# Altium schematic symbol library STL.SchLib: 124 symbols (part 1 of 4)
Pins are listed as number, name and electrical type; pins without a type are passive.

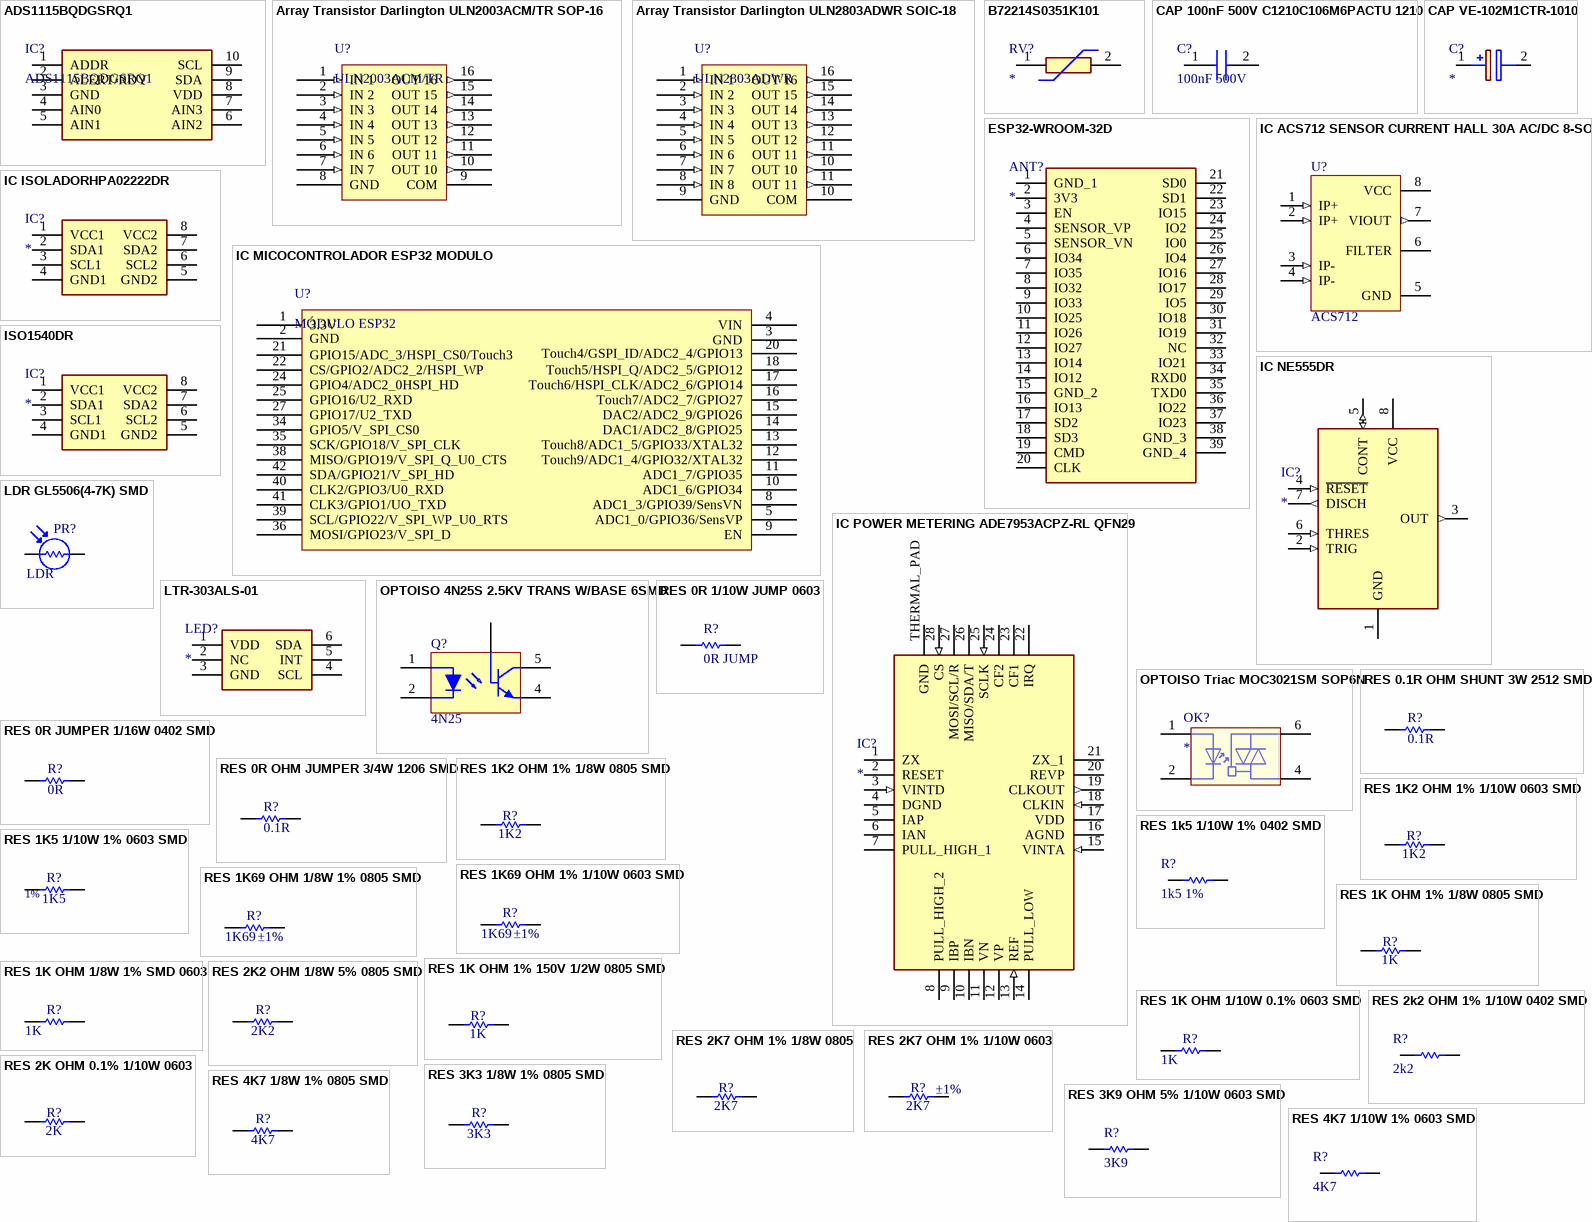
[diagram p0: symbols ADS1115BQDGSRQ1 to RES 4K7 1/10W 1% 0603 SMD]

## ADS1115BQDGSRQ1
designator IC?
TEXAS INSTRUMENTS - ADS1115IDGSR . - Analogue to Digital Converter, 16 bit, 860 SPS, Differential, Single Ended, I2C, Single, 2 V; Description: Automotive 16-Bit 860SPS 4-Ch Delta-Sigma ADC With PGA; Number of Bits: 16; Sampling Rate: 860S/s; Number of A/D Converters: 1; Resolution: 16b; Polarity: Bipolar; Min Supply Voltage: 2V; Max Supply Voltage: 5.5V; Conversion Rate: 0.86KS/s; Number of Inputs: 4; Integral Nonlinearity (INL): 1LSB; Power Dissipation: 900uW; Datasheet Link: http://www.ti.com/lit/gpn/ads1115-q1; Height: 1.1mm; Manufacturer_Name: Texas Instruments; Manufacturer_Part_Number: ADS1115BQDGSRQ1; Mouser Part Number: 595-ADS1115BQDGSRQ1; Mouser Price/Stock: https://www.mouser.co.uk/ProductDetail/Texas-Instruments/ADS1115BQDGSRQ1/?qs=34RfhUjJmKdvyLrkbnfjHA%3D%3D; Arrow Part Number: ADS1115BQDGSRQ1; Arrow Price/Stock: https://www.arrow.com/en/products/ads1115bqdgsrq1/texas-instruments; Supplier 1: LCSC; Manufacturer: Texas Instruments; Manufacturer Part Number: ADS1115IDGSR; RoHS: Yes; Category: Analog to Digital Converters (ADCs); Stock 1: 2090; Pricing 1: 1=6,48990, 10=5,80260, 30=5,62890, 100=5,40670, 500=5,30270, 1000=5,28640, 1=6,27060, 10=5,60650, 30=5,43870, 100=5,22400, 500=5,12350, 1000=5,10770, 1=32,80040, 10=29,32660, 30=28,44890, 100=27,32610, 500=26,80000, 1000=26,71760, 1=31,14230, 10=27,84420, 30=27,01090, 100=25,94470, 500=25,44530, 1000=25,36700, 1=4,18840, 10=3,74480, 30=3,63270, 100=3,48930, 500=3,42220, 1000=3,41160, 1=3,64070, 10=3,25510, 30=3,15770, 100=3,03310, 500=2,97470, 1000=2,96550, 1=39,24500, 10=35,08870, 30=34,03860, 100=32,69510, 500=32,06570, 1000=31,96710, 1=547,53230, 10=489,54570, 30=474,89470, 100=456,15060, 500=447,36860, 1000=445,99340, 1=20,72620, 10=18,53120, 30=17,97660, 100=17,26700, 500=16,93460, 1000=16,88260, 1=379,14150, 10=338,98840, 30=328,84330, 100=315,86380, 500=309,78270, 1000=308,83040, 1=42,40760, 10=37,91640, 30=36,78160, 100=35,32990, 500=34,64970, 1000=34,54320, 1=6,70750, 10=5,99720, 30=5,81770, 100=5,58800, 500=5,48050, 1000=5,46360, 1=5,05640, 10=4,52090, 30=4,38560, 100=4,21250, 500=4,13140, 1000=4,11870 (AUD); Case/Package: VSSOP; Number of Pins: 10; Contact Plating: Gold; Min Operating Temperature: -40°C; Max Operating Temperature: 125°C; Package Quantity: 2500; Packaging: Tape and Reel; Interface: I2C; Number of Converters: 1; Supply Type: Single; Max Supply Voltage (DC): 5.5V; Min Supply Voltage (DC): 2V; Series: -; Radiation Hardening: No; REACH SVHC: No SVHC; Lead Free: Lead Free; RoHS Compliant: Yes; ComponentLink1URL: https://datasheet.ciiva.com/4031/47725463s8438921n7713-4031028.pdf?src-supplier=Arrow+Electronics; ComponentLink1Description: https://datasheet.ciiva.com/4031/47725463s8438921n7713-4031028.pdf?src-supplier=Arrow+Electronics; ComponentLink2URL: https://datasheet.ciiva.com/1304/ads1113-1304266.pdf?src-supplier=Digi-Key; ComponentLink2Description: https://datasheet.ciiva.com/1304/ads1113-1304266.pdf?src-supplier=Digi-Key; ComponentLink3URL: https://datasheet.ciiva.com/25993/sbas444b-25993205.pdf?src-supplier=Avnet+Europe; ComponentLink3Description: https://datasheet.ciiva.com/25993/sbas444b-25993205.pdf?src-supplier=Avnet+Europe; Supplier Part Number 1: C37593
footprint SOP50P490X110-10N
pins: 1 ADDR, 2 ALERT/RDY, 3 GND, 4 AIN0, 5 AIN1, 6 AIN2, 7 AIN3, 8 VDD, 9 SDA, 10 SCL

## Array Transistor Darlington ULN2003ACM/TR SOP-16
designator U?, comment ULN2003ACM/TR
IC PWR RELAY 7NPN 1:1 16SO; Manufacturer: Diodes; Manufacturer Part Number: ULN2003AS16-13; Max Collector Current: 500mA; Collector Emitter Voltage (VCEO): 1.6V; Collector Emitter Breakdown Voltage: 50V; Continuous Collector Current: 350mA; Output Type: TTL; Supplier 1: LCSC; RoHS: Yes; Category: BJTs; Stock 1: 832; Pricing 1: 1=0,27550, 10=0,20470, 30=0,19160, 100=0,17860, 500=0,17270, 1000=0,17000, 1=0,26550, 10=0,19730, 30=0,18460, 100=0,17220, 500=0,16650, 1000=0,16380, 1=1,37700, 10=1,02310, 30=0,95770, 100=0,89290, 500=0,86350, 1000=0,84970, 1=1,32730, 10=0,98620, 30=0,92320, 100=0,86070, 500=0,83240, 1000=0,81910, 1=0,17800, 10=0,13230, 30=0,12380, 100=0,11540, 500=0,11160, 1000=0,10990, 1=0,15260, 10=0,11340, 30=0,10620, 100=0,09900, 500=0,09570, 1000=0,09420, 1=1,63540, 10=1,21510, 30=1,13740, 100=1,06050, 500=1,02560, 1000=1,00920, 1=23,07380, 10=17,14360, 30=16,04750, 100=14,96230, 500=14,46910, 1000=14,23890, 1=0,87280, 10=0,64850, 30=0,60700, 100=0,56600, 500=0,54730, 1000=0,53860, 1=16,00090, 10=11,88860, 30=11,12840, 100=10,37590, 500=10,03380, 1000=9,87420, 1=1,81880, 10=1,35130, 30=1,26490, 100=1,17940, 500=1,14050, 1000=1,12240, 1=0,28330, 10=0,21050, 30=0,19700, 100=0,18370, 500=0,17770, 1000=0,17480, 1=0,21050, 10=0,15640, 30=0,14640, 100=0,13650, 500=0,13200, 1000=0,12990 (AUD); Mount: Surface Mount; Case/Package: SO; Number of Pins: 16; Weight: 0.007079oz; Min Operating Temperature: -40°C; Max Operating Temperature: 105°C; Packaging: Tape and Reel; Package Quantity: 2500; Lead Free: Lead Free; ComponentLink1URL: http://www.mouser.com/ds/2/115/ULN200xA-345854.pdf?src-supplier=Mouser; ComponentLink1Description: http://www.mouser.com/ds/2/115/ULN200xA-345854.pdf?src-supplier=Mouser; ComponentLink2URL: http://diodes.com/datasheets/ULN200xA.pdf?src-supplier=Avnet; ComponentLink2Description: http://diodes.com/datasheets/ULN200xA.pdf?src-supplier=Avnet; ComponentLink3URL: https://www.diodes.com/assets/Datasheets/ULN200xA.pdf?src-supplier=Digi-Key; ComponentLink3Description: https://www.diodes.com/assets/Datasheets/ULN200xA.pdf?src-supplier=Digi-Key; Supplier Part Number 1: C164883
footprint SO-16 (SO-16 SMD COMPONENTS)
pins: 1 IN 1 (in), 2 IN 2 (in), 3 IN 3 (in), 4 IN 4 (in), 5 IN 5 (in), 6 IN 6 (in), 7 IN 7 (in), 8 GND (power), 9 COM (power), 10 OUT 10 (out), 11 OUT 11 (out), 12 OUT 12 (out), 13 OUT 13 (out), 14 OUT 14 (out), 15 OUT 15 (out), 16 OUT 16 (out)

## Array Transistor Darlington ULN2803ADWR SOIC-18
designator U?, comment ULN2803ADWR
TEXAS INSTRUMENTS - ULN2803ADWR - Bipolar Transistor Array, NPN, 50 V, 500 mA, SOIC - Bipolar Transistor Array, NPN, 50 V, 500 mA, SOIC; Collector Emitter Voltage (VCEO): 50V; Max Collector Current: 500mA; Number of Elements: 8; Collector Emitter Saturation Voltage: 1.1V; ComponentLink1URL: http://www.mouser.com/ds/2/115/ULN200xA-345854.pdf?src-supplier=Mouser; ComponentLink1Description: http://www.mouser.com/ds/2/115/ULN200xA-345854.pdf?src-supplier=Mouser; Supplier 1: LCSC; Manufacturer: Texas Instruments; Manufacturer Part Number: ULN2803ADWR; RoHS: Yes; Category: Integrated Circuits (ICs); Stock 1: 49110; Pricing 1: 1=1,34980, 10=1,10210, 30=1,03840, 100=0,95810, 500=0,92030, 1000=0,91330, 1=1,30100, 10=1,06220, 30=1,00080, 100=0,92350, 500=0,88700, 1000=0,88020, 1=6,74760, 10=5,50930, 30=5,19070, 100=4,78970, 500=4,60060, 1000=4,56530, 1=6,50430, 10=5,31070, 30=5,00360, 100=4,61700, 500=4,43480, 1000=4,40070, 1=0,87230, 10=0,71220, 30=0,67110, 100=0,61920, 500=0,59480, 1000=0,59020, 1=0,74800, 10=0,61070, 30=0,57540, 100=0,53090, 500=0,51000, 1000=0,50610, 1=8,01410, 10=6,54330, 30=6,16500, 100=5,68870, 500=5,46420, 1000=5,42220, 1=113,06690, 10=92,31690, 30=86,97870, 100=80,25940, 500=77,09160, 1000=76,49960, 1=4,27710, 10=3,49220, 30=3,29020, 100=3,03610, 500=2,91620, 1000=2,89380, 1=78,40820, 10=64,01880, 30=60,31700, 100=55,65730, 500=53,46050, 1000=53,05000, 1=8,91250, 10=7,27690, 30=6,85610, 100=6,32640, 500=6,07670, 1000=6,03010, 1=1,38830, 10=1,13350, 30=1,06800, 100=0,98550, 500=0,94660, 1000=0,93930, 1=1,03150, 10=0,84220, 30=0,79350, 100=0,73220, 500=0,70330, 1000=0,69790 (AUD); Mount: Surface Mount; Case/Package: SOIC; Number of Pins: 18; Contact Plating: Gold; Min Operating Temperature: -65°C; Max Operating Temperature: 150°C; Packaging: Tape and Reel; Package Quantity: 1; Polarity: NPN; Collector Emitter Breakdown Voltage: 50V; Number of Drivers: 8; Voltage Rating (DC): 50V; Current Rating: 500mA; Length: 11.62mm; Width: 7.52mm; Height: 2.35mm; Radiation Hardening: No; Lead Free: Lead Free; RoHS Compliant: Yes; REACH SVHC: No SVHC; ComponentLink2URL: https://datasheet.ciiva.com/1193/1696822-1193522.pdf?src-supplier=Element14; ComponentLink2Description: https://datasheet.ciiva.com/1193/1696822-1193522.pdf?src-supplier=Element14; ComponentLink3URL: https://datasheet.ciiva.com/15140/getdatasheetpartid-134747-15140033.pdf?src-supplier=Verical; ComponentLink3Description: https://datasheet.ciiva.com/15140/getdatasheetpartid-134747-15140033.pdf?src-supplier=Verical; ComponentLink4URL: https://datasheet.ciiva.com/27054/1927351-27054884.pdf?src-supplier=Jameco; ComponentLink4Description: https://datasheet.ciiva.com/27054/1927351-27054884.pdf?src-supplier=Jameco; ComponentLink5URL: https://datasheet.ciiva.com/1700/uln2803a-1700969.pdf?src-supplier=Digi-Key; ComponentLink5Description: https://datasheet.ciiva.com/1700/uln2803a-1700969.pdf?src-supplier=Digi-Key; ComponentLink6URL: https://datasheet.ciiva.com/1700/uln2803a-1700970.pdf?src-supplier=Digi-Key; ComponentLink6Description: https://datasheet.ciiva.com/1700/uln2803a-1700970.pdf?src-supplier=Digi-Key; ComponentLink7URL: https://datasheet.ciiva.com/14424/uln2803a-14424071.pdf?src-supplier=Avnet; ComponentLink7Description: https://datasheet.ciiva.com/14424/uln2803a-14424071.pdf?src-supplier=Avnet; ComponentLink8URL: https://datasheet.ciiva.com/14424/uln2803a-14424072.pdf?src-supplier=Avnet; ComponentLink8Description: https://datasheet.ciiva.com/14424/uln2803a-14424072.pdf?src-supplier=Avnet; ComponentLink9URL: https://datasheet.ciiva.com/22695/1887697-22695371.pdf?src-supplier=Element14; ComponentLink9Description: https://datasheet.ciiva.com/22695/1887697-22695371.pdf?src-supplier=Element14; ComponentLink10URL: https://datasheet.ciiva.com/1258/1696822-1258689.pdf?src-supplier=Newark; ComponentLink10Description: https://datasheet.ciiva.com/1258/1696822-1258689.pdf?src-supplier=Newark; ComponentLink11URL: https://datasheet.ciiva.com/22747/1887697-22747447.pdf?src-supplier=Element14; ComponentLink11Description: https://datasheet.ciiva.com/22747/1887697-22747447.pdf?src-supplier=Element14; ComponentLink12URL: https://datasheet.ciiva.com/46384/1887697-46384520.pdf?src-supplier=Element14; ComponentLink12Description: https://datasheet.ciiva.com/46384/1887697-46384520.pdf?src-supplier=Element14; Supplier Part Number 1: C9683
footprint SOIC-18 (SO-16 SMD COMPONENTS)
pins: 1 IN 1 (in), 2 IN 2 (in), 3 IN 3 (in), 4 IN 4 (in), 5 IN 5 (in), 6 IN 6 (in), 7 IN 7 (in), 8 IN 8 (in), 9 GND (power), 10 OUT 10 (out), 10 COM (power), 11 OUT 11 (out), 11 OUT 11 (out), 12 OUT 12 (out), 13 OUT 13 (out), 14 OUT 14 (out), 15 OUT 15 (out), 16 OUT 16 (out)

## B72214S0351K101
designator RV?
Varistor; Manufacturer_Name: TDK; Manufacturer_Part_Number: B72214S0351K101; Datasheet Link: https://datasheet.lcsc.com/szlcsc/TDK-B72214S0351K101_C83535.pdf; Height: 18.5mm; Arrow Part Number: B72214S0351K101; Arrow Price/Stock: https://www.arrow.com/en/products/b72214s0351k101/epcos-tdk
footprint B72214S0351K101
pins: 1, 2

## CAP 100nF 500V C1210C106M6PACTU 1210
designator C?, comment 100nF 500V
CAP CER 0.1UF 500V X7R 1210; Manufacturer_Name: Kemet; Manufacturer_Part_Number: C1210C106M6PACTU; Manufacturer Part Number: C1210C104KCRACTU; Dielectric Material: Ceramic; Voltage Rating (DC): 1kV; Tolerance: 10%; Datasheet Link: https://api.kemet.com/component-edge/download/datasheet/C1210C106M6PACTU.pdf; Height: 2.1mm; Mouser Part Number: 80-C1210C106M6P; Mouser Price/Stock: https://www.mouser.co.uk/ProductDetail/KEMET/C1210C106M6PACTU?qs=K%2Fj%2Fqf%252B0fqKxjJfAWxNdjg%3D%3D; Arrow Part Number: C1210C106M6PACTU; Arrow Price/Stock: https://www.arrow.com/en/products/c1210c106m6pactu/kemet-corporation; Supplier 1: LCSC; Manufacturer: KEMET; RoHS: Yes; Category: Ceramic Capacitors; Stock 1: 12082; Pricing 1: 1=0,22980, 10=0,17550, 30=0,16550, 100=0,15550, 500=0,15110, 1000=0,14890, 1=0,22120, 10=0,16900, 30=0,15930, 100=0,14970, 500=0,14540, 1000=0,14330, 1=1,15440, 10=0,88170, 30=0,83110, 100=0,78120, 500=0,75890, 1000=0,74770, 1=1,10970, 10=0,84760, 30=0,79900, 100=0,75100, 500=0,72950, 1000=0,71880, 1=0,14920, 10=0,11400, 30=0,10740, 100=0,10100, 500=0,09810, 1000=0,09670, 1=0,12760, 10=0,09740, 30=0,09180, 100=0,08630, 500=0,08390, 1000=0,08260, 1=1,36580, 10=1,04320, 30=0,98340, 100=0,92430, 500=0,89790, 1000=0,88460, 1=19,30340, 10=14,74390, 30=13,89800, 100=13,06300, 500=12,68950, 1000=12,50270, 1=0,72810, 10=0,55610, 30=0,52420, 100=0,49270, 500=0,47860, 1000=0,47160, 1=13,29180, 10=10,15230, 30=9,56980, 100=8,99480, 500=8,73760, 1000=8,60900, 1=1,52590, 10=1,16550, 30=1,09860, 100=1,03260, 500=1,00310, 1000=0,98830, 1=0,23690, 10=0,18090, 30=0,17050, 100=0,16030, 500=0,15570, 1000=0,15340, 1=0,17570, 10=0,13420, 30=0,12650, 100=0,11890, 500=0,11550, 1000=0,11380 (AUD); Mount: Surface Mount; Case/Package: 1210; Case Code (Imperial): 1210; Case Code (Metric): 3225; Contact Plating: Tin,Matte; Min Operating Temperature: -55°C; Max Operating Temperature: 125°C; Package Quantity: 1; Voltage Rating: 500V; Packaging: Tape and Reel; Capacitance: 100nF; Dielectric: X7R; Termination: SMD/SMT; Series: C; Length: 3.2mm; Width: 2.5mm; Thickness: 0.091inch; Depth: 2.5mm; REACH SVHC: No SVHC; RoHS Compliant: Yes; ComponentLink1URL: https://datasheet.ciiva.com/5409/kem-c1010-x7r-hv-smd-5409158.pdf?src-supplier=Mouser; ComponentLink1Description: https://datasheet.ciiva.com/5409/kem-c1010-x7r-hv-smd-5409158.pdf?src-supplier=Mouser; Supplier Part Number 1: C141218
footprint CAPC3225-1210N
pins: 1, 2

## CAP VE-102M1CTR-1010
designator C?
Capacitor Polarised; Manufacturer_Name: Lelon; Manufacturer_Part_Number: VE-102M1CTR-1010; Datasheet Link: https://datasheet.lcsc.com/szlcsc/1811051743_Lelon-VE-102M1CTR-1010_C249474.pdf; Height: 10.5mm
footprint CAPAE1030X1050N
pins: 1 +, 2 -

## ESP32-WROOM-32D
designator ANT?
Antenna; Manufacturer_Name: Espressif Systems; Manufacturer_Part_Number: ESP32-WROOM-32D; Datasheet Link: https://www.mouser.com/datasheet/2/891/esp32-wroom-32d_esp32-wroom-32u_datasheet_en-1365844.pdf; Height: 3.1mm; Mouser Part Number: N/A; Mouser Price/Stock: https://www.mouser.co.uk/ProductDetail/Espressif-Systems/ESP32-WROOM-32D/?qs=MLItCLRbWszx2KabkKPu5A%3D%3D
footprint ESP32WROOM32D
pins: 1 GND_1, 2 3V3, 3 EN, 4 SENSOR_VP, 5 SENSOR_VN, 6 IO34, 7 IO35, 8 IO32, 9 IO33, 10 IO25, 11 IO26, 12 IO27, 13 IO14, 14 IO12, 15 GND_2, 16 IO13, 17 SD2, 18 SD3, 19 CMD, 20 CLK, 21 SD0, 22 SD1, 23 IO15, 24 IO2, 25 IO0, 26 IO4, 27 IO16, 28 IO17, 29 IO5, 30 IO18, 31 IO19, 32 NC, 33 IO21, 34 RXD0, 35 TXD0, 36 IO22, 37 IO23, 38 GND_3, 39 GND_4

## IC ACS712 SENSOR CURRENT HALL 30A AC/DC 8-SOIC
designator U?, comment ACS712
SENSOR CURRENT HALL 30A AC/DC; Manufacturer: Allegro MicroSystems, LLC; Manufacturer Part Number: ACS712ELCTR-30A-T; Sensor Type: Hall Effect, Open Loop; Number of Channels: 1; Output: Ratiometric, Voltage; Sensitivity: 66mV/A; Frequency: DC ~ 80kHz; Linearity: ±1.5%; Voltage - Supply: 5V; Response Time: 5µs; Current - Supply (Max): 13mA; Polarization: Bidirectional; Supplier 1: Digi-Key; RoHS: RoHS Compliant; Category: Sensors, Transducers; Stock 1: 10995; Pricing 1: 1=4.82, 10=3.76, 50=2.6962, 100=2.6252, 250=2.41232, 500=2.19946, 1000=2.05755 (USD); Packaging: Cut Tape (CT); For Measuring: AC/DC; Current - Sensing: 30A; Accuracy: ±1.5%; Operating Temperature: -40°C ~ 85°C; Mounting Type: Surface Mount; Package / Case: 8-SOIC (0.154", 3.90mm Width); ComponentLink1URL: http://www.allegromicro.com/en/Products/Part_Numbers/0712/0712.pdf; ComponentLink1Description: http://www.allegromicro.com/en/Products/Part_Numbers/0712/0712.pdf; Supplier Part Number 1: 620-1191-1-ND
footprint SOIC-8
pins: 1 IP+ (in), 2 IP+ (in), 3 IP- (in), 4 IP- (in), 5 GND (power), 6 FILTER, 7 VIOUT (out), 8 VCC (power)

## IC ISOLADORHPA02222DR
designator IC?
Integrated Circuit; Manufacturer_Name: Texas Instruments; Manufacturer_Part_Number: HPA02222DR; Datasheet Link: http://www.ti.com/general/docs/suppproductinfo.tsp?distId=26&gotoUrl=http%3A%2F%2Fwww.ti.com%2Flit%2Fgpn%2Fiso1540; Height: 1.75mm; Mouser Part Number: 595-HPA02222DR; Mouser Price/Stock: http://www.mouser.com/Search/ProductDetail.aspx?qs=CinXaP2cUj2opC1RRUOhNg%3d%3d
footprint SOIC127P600X175-8N
pins: 1 VCC1, 2 SDA1, 3 SCL1, 4 GND1, 5 GND2, 6 SCL2, 7 SDA2, 8 VCC2

## IC MICOCONTROLADOR ESP32 MODULO
designator U?, comment MÓDULO ESP32
footprint ESP32 MOD
pins: 1 3.3V (power), 2 GND (power), 3 GND, 4 VIN, 5 ADC1_0/GPIO36/SensVP, 8 ADC1_3/GPIO39/SensVN, 9 EN, 10 ADC1_6/GPIO34, 11 ADC1_7/GPIO35, 12 Touch9/ADC1_4/GPIO32/XTAL32, 13 Touch8/ADC1_5/GPIO33/XTAL32, 14 DAC1/ADC2_8/GPIO25, 15 DAC2/ADC2_9/GPIO26, 16 Touch7/ADC2_7/GPIO27, 17 Touch6/HSPI_CLK/ADC2_6/GPIO14, 18 Touch5/HSPI_Q/ADC2_5/GPIO12, 20 Touch4/GSPI_ID/ADC2_4/GPIO13, 21 GPIO15/ADC_3/HSPI_CS0/Touch3, 22 CS/GPIO2/ADC2_2/HSPI_WP, 24 GPIO4/ADC2_0HSPI_HD, 25 GPIO16/U2_RXD, 27 GPIO17/U2_TXD, 34 GPIO5/V_SPI_CS0, 35 SCK/GPIO18/V_SPI_CLK, 36 MOSI/GPIO23/V_SPI_D, 38 MISO/GPIO19/V_SPI_Q_U0_CTS, 39 SCL/GPIO22/V_SPI_WP_U0_RTS, 40 CLK2/GPIO3/U0_RXD, 41 CLK3/GPIO1/UO_TXD, 42 SDA/GPIO21/V_SPI_HD

## IC NE555DR
designator IC?
Integrated Circuit; Manufacturer_Name: Texas Instruments; Manufacturer_Part_Number: NE555DR; Datasheet Link: http://www.ti.com/lit/ds/symlink/ne555.pdf; Height: 1.75mm; Mouser Part Number: 595-NE555DR; Mouser Price/Stock: https://www.mouser.com/Search/Refine.aspx?Keyword=595-NE555DR; RS Part Number: 1218414; RS Price/Stock: http://uk.rs-online.com/web/p/products/1218414
footprint SOIC127P600X175-8N
pins: 1 GND (power), 2 TRIG (in), 3 OUT (out), 4 ~{RESET} (in), 5 CONT (io), 6 THRES (in), 7 DISCH (out), 8 VCC (power)

## IC POWER METERING ADE7953ACPZ-RL QFN29
designator IC?
Integrated Circuit; Manufacturer_Name: Analog Devices; Manufacturer_Part_Number: ADE7953ACPZ-RL; Datasheet Link: http://www.mouser.com/ds/2/609/ADE7953-878394.pdf; Height: 0.8mm; Mouser Part Number: 584-ADE7953ACPZ-R; Mouser Price/Stock: https://www.mouser.co.uk/ProductDetail/Analog-Devices/ADE7953ACPZ-RL?qs=BpaRKvA4VqEEtm%2FBpTzUmQ%3D%3D; Arrow Part Number: ADE7953ACPZ-RL; Arrow Price/Stock: https://www.arrow.com/en/products/ade7953acpz-rl/analog-devices
footprint QFN50P500X500X80-29N-D
pins: 1 ZX, 2 RESET, 3 VINTD (in), 4 DGND (power), 5 IAP, 6 IAN, 7 PULL_HIGH_1, 8 PULL_HIGH_2, 9 IBP, 10 IBN, 11 VN, 12 VP, 13 REF (in), 14 PULL_LOW, 15 VINTA (in), 16 AGND (power), 17 VDD (power), 18 CLKIN (in), 19 CLKOUT (out), 20 REVP, 21 ZX_1, 22 IRQ, 23 CF1, 24 CF2, 25 SCLK (in), 26 MISO/SDA/T, 27 MOSI/SCL/R, 28 CS (in), THERMAL_PAD GND (power)

## ISO1540DR
designator IC?
Integrated Circuit; Manufacturer_Name: Texas Instruments; Manufacturer_Part_Number: ISO1540DR; Datasheet Link: http://www.ti.com/lit/ds/symlink/iso1540.pdf; Height: 1.75mm; Mouser Part Number: 595-ISO1540DR; Mouser Price/Stock: https://www.mouser.co.uk/ProductDetail/Texas-Instruments/ISO1540DR?qs=rg6Iqu58vpX77upb7ifqqQ%3D%3D; Arrow Part Number: ISO1540DR; Arrow Price/Stock: https://www.arrow.com/en/products/iso1540dr/texas-instruments
footprint SOIC127P600X175-8N
pins: 1 VCC1, 2 SDA1, 3 SCL1, 4 GND1, 5 GND2, 6 SCL2, 7 SDA2, 8 VCC2

## LDR GL5506(4-7K) SMD
designator PR?, comment LDR
THROUGH HOLE PHOTORESISTORS ROHS; Manufacturer: JCHL(Shenzhen Jing Chuang He Li Tech); Manufacturer Part Number: GL5506(4-7K); Supplier 1: LCSC; Supplier Part Number 1: C404970
footprint LDR 3x0.5
pins: 1, 2

## LTR-303ALS-01
designator LED?
LED; Manufacturer_Name: Lite-On; Manufacturer_Part_Number: LTR-303ALS-01; Datasheet Link: http://optoelectronics.liteon.com/upload/download/DS86-2013-0004/LTR-303ALS-01_DS_V1.pdf; Height: 0mm; Mouser Part Number: 859-LTR-303ALS-01; Mouser Price/Stock: https://www.mouser.co.uk/ProductDetail/Lite-On/LTR-303ALS-01?qs=Ml%2FaxAEbwm%252Bm%252BetMkBDC8g%3D%3D; Arrow Part Number: LTR-303ALS-01; Arrow Price/Stock: https://www.arrow.com/en/products/ltr-303als-01/lite-on-technology
footprint LTR303ALS01
pins: 1 VDD, 2 NC, 3 GND, 4 SCL, 5 INT, 6 SDA

## OPTOISO 4N25S 2.5KV TRANS W/BASE 6SMD
designator Q?, comment 4N25
OPTOISO 4.17KV TRANS W/BASE 6SMD; Manufacturer: ON Semiconductor; Manufacturer Part Number: 4N25SR2M; Max Power Dissipation: 250mW; Supplier 1: Digi-Key; RoHS: No; Category: Optocouplers; Stock 1: 12901; Pricing 1: 1=0,73000, 10=0,57000, 100=0,36570, 500=0,31448 (USD); ComponentLink1URL: http://www.farnell.com/datasheets/2287881.pdf?src-supplier=Farnell; ComponentLink1Description: http://www.farnell.com/datasheets/2287881.pdf?src-supplier=Farnell; ComponentLink2URL: https://produktinfo.conrad.com/datenblaetter/1200000-1299999/001265459-da-01-en-OPTOISOLATOR_TRANS_7__4N25SR2M_SMD_6_ONS.PDF?src-supplier=Conrad; ComponentLink2Description: https://produktinfo.conrad.com/datenblaetter/1200000-1299999/001265459-da-01-en-OPTOISOLATOR_TRANS_7__4N25SR2M_SMD_6_ONS.PDF?src-supplier=Conrad; ComponentLink3URL: http://www.onsemi.com/pub/Collateral/4N37M-D.pdf?src-supplier=Digi-Key; ComponentLink3Description: http://www.onsemi.com/pub/Collateral/4N37M-D.pdf?src-supplier=Digi-Key; ComponentLink4URL: http://www.farnell.com/datasheets/2287881.pdf?src-supplier=Newark; ComponentLink4Description: http://www.farnell.com/datasheets/2287881.pdf?src-supplier=Newark; ComponentLink5URL: https://www.fairchildsemi.com/datasheets/4N/4N25M.pdf?src-supplier=Digi-Key; ComponentLink5Description: https://www.fairchildsemi.com/datasheets/4N/4N25M.pdf?src-supplier=Digi-Key; Supplier Part Number 1: 4N25SR2MCT-ND; Lead Free: Lead Free; Power Dissipation: 250mW; Case/Package: SMD/SMT; Package Quantity: 1000; Supplier 2: LCSC; Supplier Part Number 2: C143074
footprint 6-SMD
pins: 1 A, 2 K, 4 E, 5 C, 6 B

## OPTOISO Triac MOC3021SM SOP6N
designator OK?
OPTOCOUPLERS SMD-6 ROHS; Manufacturer_Name: Isocom; Manufacturer_Part_Number: MOC3021SM; Manufacturer Part Number: OR-MOC3021S; Manufacturer: Orient Technology; Datasheet Link: https://datasheet.datasheetarchive.com/originals/distributors/Datasheets-313/192003.pdf; Height: 4.5mm; Arrow Part Number: MOC3021SM; Arrow Price/Stock: https://www.arrow.com/en/products/moc3021sm/isocom; Supplier 1: LCSC; Supplier Part Number 1: C370899
footprint SOP254P1016X450-6N
pins: 1 A, 2 K, 4 A/K, 6 K/A

## RES 0.1R OHM SHUNT 3W 2512 SMD
designator R?, comment 0.1R
RES SMD 0.1 OHM SHUNT 3W 2512; Resistance (Ohms): 0.1; RoHS: RoHS Compliant; Category: Resistors; Packaging: Cut Tape (CT); Part Status: Active; Tolerance: shunt; Power (Watts): 3W; Composition: Thick Film; Features: CURRENT SENSOR; Package / Case: 2512; Supplier Device Package: 2512; ComponentLink1Description: datasheet; ComponentLink1URL: https://datasheet.lcsc.com/szlcsc/1912111437_SANYEAR-SY2512CFR100_C457144.pdf
footprint CR3216-1206 (Chip Capacitor; Body 3.2 x 1.6 mm (LxW typ))
pins: 1, 2

## RES 0R 1/10W JUMP 0603
designator R?, comment 0R JUMP
YAGEO - RC0603JR-070RL - Chipwiderstand, Oberflächenmontage, Jumper, 0603 [Metrisch 1608], 0 ohm, Baureihe RC, 75 V, Dickschicht; Manufacturer: Uniroyal; Manufacturer Part Number: 0603WAF0000T5E; Resistance: 0mR; Tolerance: 1%; Power Rating: 100mW; Temperature Coefficient: 200ppm/°C; Voltage Rating: 50V; Resistance Tolerance: 5%; Supplier 1: Digi-Key; RoHS: Yes; Category: Chip SMD Resistors; Stock 1: 1649957; Pricing 1: 1=0,10000, 10=0,01700, 25=0,01240, 50=0,00940, 100=0,00700, 250=0,00532, 500=0,00424, 1000=0,00313 (USD); Case/Package: 0603; Number of Pins: 2; Contact Plating: Tin,Matte; Case Code (Imperial): 0603; Case Code (Metric): 1608; Size Code: 0603; Min Operating Temperature: -55°C; Max Operating Temperature: 155°C; Resistor Type: Thick Film; Termination: SMD/SMT; Series: RC; Technology: THICK FILM; Package Quantity: 5000; Packaging: Tape and Reel; Voltage Rating (DC): 50V; Features: Moisture Resistant; Max Power Dissipation: 100mW; Number of Terminations: 2; Construction: Rectangular; Length: 1.6mm; Width: 0.8mm; Height: 0.45mm; Depth: 0.8mm; Radiation Hardening: No; RoHS Compliant: Yes; REACH SVHC: No SVHC; Military Standard: Not; Lead Free: Lead Free; ComponentLink1URL: https://datasheet.ciiva.com/11808/pyu-r-int-6-11808700.pdf?src-supplier=RSComponents; ComponentLink1Description: https://datasheet.ciiva.com/11808/pyu-r-int-6-11808700.pdf?src-supplier=RSComponents; ComponentLink2URL: https://datasheet.ciiva.com/8883/pyu-rc0603-51-rohs-l-4-8883045.pdf?src-supplier=Avnet; ComponentLink2Description: https://datasheet.ciiva.com/8883/pyu-rc0603-51-rohs-l-4-8883045.pdf?src-supplier=Avnet; ComponentLink3URL: https://datasheet.ciiva.com/12555/rc0603-272842-12555254.pdf?src-supplier=Mouser; ComponentLink3Description: https://datasheet.ciiva.com/12555/rc0603-272842-12555254.pdf?src-supplier=Mouser; ComponentLink4URL: https://datasheet.ciiva.com/22747/443971-22747530.pdf?src-supplier=Element14; ComponentLink4Description: https://datasheet.ciiva.com/22747/443971-22747530.pdf?src-supplier=Element14; ComponentLink5URL: https://datasheet.ciiva.com/15189/getdatasheetpartid-329462-15189845.pdf?src-supplier=Verical; ComponentLink5Description: https://datasheet.ciiva.com/15189/getdatasheetpartid-329462-15189845.pdf?src-supplier=Verical; ComponentLink6URL: https://datasheet.ciiva.com/7746/1738695-7746421.pdf?src-supplier=Element14; ComponentLink6Description: https://datasheet.ciiva.com/7746/1738695-7746421.pdf?src-supplier=Element14; ComponentLink7URL: https://datasheet.ciiva.com/7746/1738695-7746422.pdf?src-supplier=Element14; ComponentLink7Description: https://datasheet.ciiva.com/7746/1738695-7746422.pdf?src-supplier=Element14; Supplier Part Number 1: 311-0.0GRCT-ND; Supplier Part Number 2: C21189; Supplier 2: LCSC
footprint CR1608-0603 (Chip Resistor; Body 1.6 x 0.8 mm (LxW typ))
pins: 1, 2

## RES 0R JUMPER 1/16W 0402 SMD
designator R?, comment 0R
RES SMD 0.0OHM JUMPER 1/16W 0402; Manufacturer: Multicomp; eVendor: LCSC; eVendorPrice: 0,0012; eVendor#: 0402WGF0000TCE; MSRP: 0,0004; Datasheet: https://datasheet.lcsc.com/szlcsc/Uniroyal-Elec-0402WGF0000TCE_C17168.pdf; Part#: 0402WGF0000TCE; MOQ: 5000; Obs: --; Manufacturer Part Number: 0402WGF0000TCE; Supplier 1: LCSC; Supplier Part Number 1: C17168
footprint CR1005-0402
pins: 1, 2

## RES 0R OHM JUMPER 3/4W 1206 SMD
designator R?, comment 0.1R
RES SMD 0.1 OHM SHUNT 3W 2512; Manufacturer Part Number: CRCW12060000Z0EAHP; Resistance (Ohms): 0.1; Supply: LCSC; Packaging: Cut Tape (CT); Part Status: Active; Power (Watts): 3W; Composition: shunt; Features: current sensor; Package / Case: 2512; Supplier Device Package: 2512; ComponentLink1URL: http://www.vishay.com/docs/20043/crcwhpe3.pdf; ComponentLink1Description: http://www.vishay.com/docs/20043/crcwhpe3.pdf
footprint CR3216-1206 (Chip Capacitor; Body 3.2 x 1.6 mm (LxW typ))
pins: 1, 2

## RES 1K2 OHM 1% 1/8W 0805 SMD
designator R?, comment 1K2
RES SMD 1.2K OHM 1% 1/8W 0805; Manufacturer: Panasonic Electronic Components; Manufacturer Part Number: ERJ-6ENF1201V; Power (Watts): 0.125W, 1/8W; Temperature Coefficient: ±100ppm/°C; Supplier 1: Digi-Key; RoHS: RoHS Compliant; Category: Resistors; Stock 1: 37968; Pricing 1: 1=0.1, 10=0.036, 25=0.0264, 50=0.02, 100=0.0148, 250=0.01124, 500=0.009, 1000=0.00663 (USD); Packaging: Cut Tape (CT); Part Status: Active; Resistance (Ohms): 1.2k; Tolerance: ±1%; Composition: Thick Film; Features: Automotive AEC-Q200; Operating Temperature: -55°C ~ 155°C; Package / Case: 0805 (2012 Metric); Supplier Device Package: 0805; Size / Dimension: 0.079" L x 0.049" W (2.00mm x 1.25mm); Height - Seated (Max): 0.028" (0.70mm); Failure Rate: -; ComponentLink1URL: https://industrial.panasonic.com/cdbs/www-data/pdf/RDA0000/AOA0000C283.pdf; ComponentLink1Description: https://industrial.panasonic.com/cdbs/www-data/pdf/RDA0000/AOA0000C283.pdf; Supplier Part Number 1: P1.20KCCT-ND
footprint CR2012-0805 (Chip Capacitor)
pins: 1, 2

## RES 1K2 OHM 1% 1/10W 0603 SMD
designator R?, comment 1K2
RES SMD 1.2K OHM 1% 1/10W 0603; Manufacturer: Yageo; Manufacturer Part Number: RC0603FR-071K2L; Power (Watts): 0.1W, 1/10W; Temperature Coefficient: ±100ppm/°C; Supplier 1: Digi-Key; RoHS: RoHS Compliant; Category: Resistors; Stock 1: 636414; Pricing 1: 1=0.1, 10=0.014, 25=0.01, 100=0.0057, 250=0.00436, 500=0.00348, 1000=0.00257, 2500=0.00223 (USD); Packaging: Cut Tape (CT); Part Status: Active; Resistance (Ohms): 1.2k; Tolerance: ±1%; Composition: Thick Film; Features: Moisture Resistant; Operating Temperature: -55°C ~ 155°C; Package / Case: 0603 (1608 Metric); Supplier Device Package: 0603; Size / Dimension: 0.063" L x 0.031" W (1.60mm x 0.80mm); Height - Seated (Max): 0.022" (0.55mm); Number of Terminations: 2; Failure Rate: -; ComponentLink1URL: http://www.yageo.com/NewPortal/yageodocoutput?fileName=/pdf/R-Chip/PYu-RC_Group_51_RoHS_L_4.pdf; ComponentLink1Description: http://www.yageo.com/NewPortal/yageodocoutput?fileName=/pdf/R-Chip/PYu-RC_Group_51_RoHS_L_4.pdf; Supplier Part Number 1: 311-1.20KHRCT-ND
footprint CR1608-0603 (Chip Resistor; Body 1.6 x 0.8 mm (LxW typ))
pins: 1, 2

## RES 1k5 1/10W 1% 0402 SMD
designator R?, comment 1k5 1%
RES SMD 1.5K OHM 1% 1/10W 0402; Manufacturer: Panasonic Electronic Components; Part#: ERJ-2RKF1501X; eVendor: Digi-Key; eVendorPrice: 0,10; eVendor#: P1.50KLCT-ND; MSRP: 0,00383; Datasheet: http://industrial.panasonic.com/www-cgi/jvcr13pz.cgi?E+PZ+3+AOA0002+ERJ2RKF1501X+7+WW; MOQ: 5000
footprint CR1005-0402
pins: 1, 2

## RES 1K5 1/10W 1% 0603 SMD
designator R?, comment 1K5
RES SMD 1.5K OHM 1% 1/10W 0603; Manufacturer: Yageo; Manufacturer Part Number: RC0603FR-071K5L; Power (Watts): 0.1W, 1/10W; Temperature Coefficient: ±100ppm/°C; Supplier 1: Digi-Key; RoHS: RoHS Compliant; Category: Resistors; Stock 1: 1761447; Pricing 1: 1=0.1, 10=0.014, 25=0.01, 100=0.0057, 250=0.00436, 500=0.00348, 1000=0.00257, 2500=0.00223 (USD); Packaging: Cut Tape (CT); Part Status: Active; Resistance (Ohms): 1.5k; Tolerance: ±1%; Composition: Thick Film; Features: Moisture Resistant; Operating Temperature: -55°C ~ 155°C; Package / Case: 0603 (1608 Metric); Supplier Device Package: 0603; Size / Dimension: 0.063" L x 0.031" W (1.60mm x 0.80mm); Height: 0.022" (0.55mm); Number of Terminations: 2; Failure Rate: -; ComponentLink1URL: http://www.yageo.com/documents/recent/PYu-RC_Group_51_RoHS_L_04.pdf; ComponentLink1Description: http://www.yageo.com/documents/recent/PYu-RC_Group_51_RoHS_L_04.pdf; Supplier Part Number 1: 311-1.50KHRCT-ND
footprint CR1608-0603 (Chip Resistor; Body 1.6 x 0.8 mm (LxW typ))
pins: 1, 2
text: 1%

## RES 1K69 OHM 1% 1/10W 0603 SMD
designator R?, comment 1K69  Tolerance: ±1%
RES SMD 1.69K OHM 1% 1/10W 0603; Manufacturer: Yageo; Manufacturer Part Number: RC0603FR-071K69L; Power (Watts): 0.1W, 1/10W; Temperature Coefficient: ±100ppm/°C; Supplier 1: Digi-Key; RoHS: RoHS Compliant; Category: Resistors; Stock 1: 65719; Pricing 1: 1=0.1, 10=0.014, 25=0.01, 100=0.0057, 250=0.00436, 500=0.00348, 1000=0.00257, 2500=0.00223 (USD); Packaging: Cut Tape (CT); Resistance (Ohms): 1.69k; Composition: Thick Film; Features: Moisture Resistant; Operating Temperature: -55°C ~ 155°C; Package / Case: 0603 (1608 Metric); Supplier Device Package: 0603; Size / Dimension: 0.063" L x 0.031" W (1.60mm x 0.80mm); Height: 0.022" (0.55mm); Number of Terminations: 2; ComponentLink1URL: http://www.yageo.com/documents/recent/PYu-RC_Group_51_RoHS_L_04.pdf; ComponentLink1Description: http://www.yageo.com/documents/recent/PYu-RC_Group_51_RoHS_L_04.pdf; Supplier Part Number 1: 311-1.69KHRCT-ND
footprint CR1608-0603 (Chip Resistor; Body 1.6 x 0.8 mm (LxW typ))
pins: 1, 2

## RES 1K69 OHM 1/8W 1% 0805 SMD
designator R?, comment 1K69  Tolerance: ±1%
RES SMD 1.69K OHM 1% 1/8W 0805; Manufacturer: Panasonic Electronic Components; Part#: ERJ-6ENF1691V; eVendor: Digi-Key; eVendorPrice: 0,10; eVendor#: P1.69KCCT-ND; MSRP: 0,00675; Power (Watts): 0.125W, 1/8W; Temperature Coefficient: ±100ppm/°C; Datasheet: http://industrial.panasonic.com/www-cgi/jvcr13pz.cgi?E+PZ+3+AOA0002+ERJ6ENF1691V+7+WW; MOQ: 2500; Supplier 1: Digi-Key; Manufacturer Part Number: ERJ-6ENF1691V; RoHS: RoHS Compliant; Category: Resistors; Stock 1: 32872; Pricing 1: 1=0.1, 50=0.022, 100=0.0162, 250=0.01236, 500=0.0099, 1000=0.00729 (USD); Packaging: Cut Tape (CT); Resistance (Ohms): 1.69k; Composition: Thick Film; Features: Automotive AEC-Q200; Operating Temperature: -55°C ~ 155°C; Package / Case: 0805 (2012 Metric); Supplier Device Package: 0805; Size / Dimension: 0.079" L x 0.049" W (2.00mm x 1.25mm); Height: 0.028" (0.70mm); Number of Terminations: 2; ComponentLink1URL: http://industrial.panasonic.com/www-cgi/jvcr13pz.cgi?E+PZ+3+AOA0002+ERJ6ENF1691V+7+WW; ComponentLink1Description: http://industrial.panasonic.com/www-cgi/jvcr13pz.cgi?E+PZ+3+AOA0002+ERJ6ENF1691V+7+WW; Supplier Part Number 1: P1.69KCCT-ND
footprint CR2012-0805 (Chip Capacitor)
pins: 1, 2

## RES 1K OHM 1% 1/8W 0805 SMD
designator R?, comment 1K
RES SMD 1K OHM 1% 1/8W 0805; Manufacturer: Yageo; Manufacturer Part Number: RC0805FR-071KL; Resistance: 1kR; Voltage Rating (DC): 150V; Temperature Coefficient: 100ppm/°C; Power Rating: 125mW; ComponentLink1URL: http://media.digikey.com/pdf/Data%20Sheets/Rohm%20PDFs/MCR10%20(new)%20series.pdf; ComponentLink1Description: http://media.digikey.com/pdf/Data%20Sheets/Rohm%20PDFs/MCR10%20(new)%20series.pdf; RoHS: Yes; Category: Chip SMD Resistors; Stock 1: 24108233; Pricing 1: 1=0,10000, 10=0,04000, 100=0,01630, 1000=0,00731, 2500=0,00635 (USD); Case/Package: 0805; Number of Pins: 2; Case Code (Metric): 2012; Case Code (Imperial): 0805; Min Operating Temperature: -55°C; Max Operating Temperature: 155°C; Tolerance: 1%; Packaging: Tape and Reel; Composition: Thick Film; Package Quantity: 1; Voltage Rating: 150V; Number of Terminations: 2; Termination: SMD/SMT; Military Standard: Not; Max Power Dissipation: 125mW; Features: Moisture Resistant; Length: 0.079inch; Height: 0.024inch; Width: 0.049inch; Depth: 1.25mm; REACH SVHC: Unknown; Lead Free: Lead Free; ComponentLink2URL: https://datasheet.ciiva.com/2456/pyu-r-int-thick-7-2456976.pdf?src-supplier=Digi-Key; ComponentLink2Description: https://datasheet.ciiva.com/2456/pyu-r-int-thick-7-2456976.pdf?src-supplier=Digi-Key; ComponentLink3URL: https://datasheet.ciiva.com/2456/pyu-r-int-thick-7-2456977.pdf?src-supplier=Digi-Key; ComponentLink3Description: https://datasheet.ciiva.com/2456/pyu-r-int-thick-7-2456977.pdf?src-supplier=Digi-Key; ComponentLink4URL: https://datasheet.ciiva.com/7941/1686128-7941719.pdf?src-supplier=Element14; ComponentLink4Description: https://datasheet.ciiva.com/7941/1686128-7941719.pdf?src-supplier=Element14; ComponentLink5URL: https://datasheet.ciiva.com/16850/rc0805-16850409.pdf?src-supplier=Future+Electronics; ComponentLink5Description: https://datasheet.ciiva.com/16850/rc0805-16850409.pdf?src-supplier=Future+Electronics; ComponentLink6URL: https://datasheet.ciiva.com/46385/444164-46385020.pdf?src-supplier=Element14; ComponentLink6Description: https://datasheet.ciiva.com/46385/444164-46385020.pdf?src-supplier=Element14; ComponentLink7URL: https://datasheet.ciiva.com/2456/pyu-r-int-thick-7-2456975.pdf?src-supplier=Digi-Key; ComponentLink7Description: https://datasheet.ciiva.com/2456/pyu-r-int-thick-7-2456975.pdf?src-supplier=Digi-Key; Supplier 1: Digi-Key; Supplier 2: LCSC; Supplier Part Number 1: 311-1.00KCRDKR-ND; Supplier Part Number 2: C17513
footprint CR2012-0805 (Chip Capacitor)
pins: 1, 2

## RES 1K OHM 1% 150V 1/2W 0805 SMD
designator R?, comment 1K
RES SMD 1K OHM 1% 1/2W 0805; Manufacturer: Panasonic; Manufacturer Part Number: ERJ-P6WF1001V; Resistance: 1kR; Power Rating: 500mW; Voltage Rating: 150V; Temperature Coefficient: 200ppm/°C; Supplier 1: Digi-Key; RoHS: Yes; Category: Chip SMD Resistors; Stock 1: 90348; Pricing 1: 1=0,54000, 10=0,41200, 100=0,17310, 1000=0,09552, 2500=0,08955 (USD); Case/Package: 0805; Case Code (Metric): 2012; Case Code (Imperial): 0805; Contact Plating: Tin; Min Operating Temperature: -55°C; Max Operating Temperature: 155°C; Tolerance: 1%; Packaging: Cut Tape; Composition: Thick Film; Voltage Rating (DC): 150V; Termination: Flat; Number of Terminations: 2; Max Power Dissipation: 500mW; Features: Automotive AEC-Q200; Length: 0.079inch; Height: 0.03inch; Width: 0.049inch; Depth: 1.25mm; REACH SVHC: No SVHC; ComponentLink1URL: https://datasheet.ciiva.com/48525/erjp-series-eng-tds-48525646.pdf?src-supplier=Distrelec; ComponentLink1Description: https://datasheet.ciiva.com/48525/erjp-series-eng-tds-48525646.pdf?src-supplier=Distrelec; ComponentLink2URL: https://datasheet.ciiva.com/7942/1790600-7942445.pdf?src-supplier=Element14; ComponentLink2Description: https://datasheet.ciiva.com/7942/1790600-7942445.pdf?src-supplier=Element14; Supplier Part Number 1: P16885CT-ND
footprint CR2012-0805 (Chip Capacitor)
pins: 1, 2

## RES 1K OHM 1/8W 1% SMD 0603
designator R?, comment 1K
RES SMD 1K OHM 1% 1/8W 0603; Manufacturer: Vishay Beyschlag; Manufacturer Part Number: MCT06030C1001FP500; Power (Watts): 0.125W, 1/8W; Temperature Coefficient: ±50ppm/°C; RoHS: RoHS Compliant; Category: Resistors; Stock 1: 41559; Pricing 1: 1=0.17, 10=0.145, 25=0.1056, 50=0.0766, 100=0.0568, 250=0.04356, 500=0.03432, 1000=0.02376, 2500=0.02178 (USD); Packaging: Cut Tape (CT); Resistance (Ohms): 1k; Composition: Thin Film; Features: -; Operating Temperature: -55°C ~ 155°C; Package / Case: 0603 (1608 Metric); Supplier Device Package: 0603; Size / Dimension: 0.061" L x 0.033" W (1.55mm x 0.85mm); Height: 0.022" (0.55mm); Number of Terminations: 2; ComponentLink1URL: http://www.vishay.com/docs/28705/mcx0x0xpro.pdf; ComponentLink1Description: http://www.vishay.com/docs/28705/mcx0x0xpro.pdf; Tolerance: ±1%; Supplier 1: Digi-Key; Supplier 2: LCSC; Supplier Part Number 2: C441922; Supplier Part Number 1: MCT0603-1.00K-CFCT-ND
footprint CR1608-0603 (Chip Resistor; Body 1.6 x 0.8 mm (LxW typ))
pins: 1, 2

## RES 1K OHM 1/10W 0.1% 0603 SMD
designator R?, comment 1K
MULTICOMP PRO - MCWF06R1001BTL - Resistencia SMD de Tipo Chip, Película Delgada, 0603 [Métrica 1608], 1 kohm, Serie MCWF06R, 75 V; Resistance: 1kR; Voltage Rating: 75V; Power Rating: 100mW; Tolerance: 0.1%; Temperature Coefficient: 25ppm/°C; Manufacturer: Multicomp; Manufacturer Part Number: MCWF06R1001BTL; RoHS: No; Case/Package: 0603; Case Code (Metric): 1608; Case Code (Imperial): 0603; Packaging: Tape and Reel; Resistor Type: Thin Film; Voltage Rating (DC): 75V; REACH SVHC: No SVHC; ComponentLink1URL: http://www.farnell.com/datasheets/2860647.pdf?src-supplier=Farnell; ComponentLink1Description: http://www.farnell.com/datasheets/2860647.pdf?src-supplier=Farnell; ComponentLink2URL: http://www.farnell.com/datasheets/1729042.pdf?src-supplier=Element14; ComponentLink2Description: http://www.farnell.com/datasheets/1729042.pdf?src-supplier=Element14; ComponentLink3URL: http://www.farnell.com/datasheets/1729040.pdf?src-supplier=Element14; ComponentLink3Description: http://www.farnell.com/datasheets/1729040.pdf?src-supplier=Element14; Supplier 1: LCSC; Supplier 2: LCSC; Supplier Part Number 1: C241300; Supplier Part Number 2: C844920
footprint CR1608-0603 (Chip Resistor; Body 1.6 x 0.8 mm (LxW typ))
pins: 1, 2

## RES 2k2 OHM 1% 1/10W 0402 SMD
designator R?, comment 2k2
RES SMD 2.2K OHM 1% 1/10W 0402; Manufacturer: Panasonic Electronic Components; Part#: ERJ-2RKF2201X; eVendor: Digi-Key; eVendorPrice: 0,10; eVendor#: P2.20KLCT-ND; MSRP: 0,00383; Datasheet: http://industrial.panasonic.com/www-cgi/jvcr13pz.cgi?E+PZ+3+AOA0002+ERJ2RKF2201X+7+WW; MOQ: 5000; Obs: --
footprint CR1005-0402
pins: 1, 2

## RES 2K2 OHM 1/8W 5% 0805 SMD
designator R?, comment 2K2
RES SMD 2.2K OHM 5% 1/8W 0805; Manufacturer: Panasonic Electronic Components; Part#: ERJ-6GEYJ222V; eVendor: Digi-Key; eVendorPrice: 0,10; eVendor#: P2.2KACT-ND; MSRP: 0,00459; Power (Watts): 0.125W, 1/8W; Temperature Coefficient: ±200ppm/°C; Datasheet: http://industrial.panasonic.com/www-cgi/jvcr13pz.cgi?E+PZ+3+AOA0001+ERJ6GEYJ222V+7+WW; MOQ: 2500; Obs: ERJ-6GEYJ222V; Supplier 1: Digi-Key; Manufacturer Part Number: ERJ-6GEYJ222V; RoHS: RoHS Compliant; Category: Resistors; Stock 1: 100522; Pricing 1: 1=0.1, 10=0.025, 25=0.018, 50=0.0136, 100=0.01, 250=0.00764, 500=0.00612, 1000=0.00451 (USD); Packaging: Cut Tape (CT); Part Status: Active; Resistance (Ohms): 2.2k; Tolerance: ±5%; Composition: Thick Film; Features: Automotive AEC-Q200; Operating Temperature: -55°C ~ 155°C; Package / Case: 0805 (2012 Metric); Supplier Device Package: 0805; Size / Dimension: 0.079" L x 0.049" W (2.00mm x 1.25mm); Height - Seated (Max): 0.028" (0.70mm); Number of Terminations: 2; Failure Rate: -; ComponentLink1URL: http://industrial.panasonic.com/www-cgi/jvcr13pz.cgi?E+PZ+3+AOA0001+ERJ6GEYJ222V+7+WW; ComponentLink1Description: http://industrial.panasonic.com/www-cgi/jvcr13pz.cgi?E+PZ+3+AOA0001+ERJ6GEYJ222V+7+WW; Supplier Part Number 1: P2.2KACT-ND; Supplier 2: LCSC; Supplier Part Number 2: C17520
footprint CR2012-0805 (Chip Capacitor)
pins: 1, 2

## RES 2K7 OHM 1% 1/8W 0805
designator R?, comment 2K7
RES SMD 2.7K OHM 1% 1/8W 0805; Manufacturer: TE Connectivity; Manufacturer Part Number: CRG0805F2K7; Resistance: 2.7kR; Temperature Coefficient: 100ppm/°C; Power Rating: 125mW; Voltage Rating: 150V; Number of Resistors: 1; ComponentLink1URL: http://www.yageo.com/NewPortal/yageodocoutput?fileName=/pdf/R-Chip/PYu-RC_Group_51_RoHS_L_4.pdf; ComponentLink1Description: http://www.yageo.com/NewPortal/yageodocoutput?fileName=/pdf/R-Chip/PYu-RC_Group_51_RoHS_L_4.pdf; Supplier 1: Digi-Key; RoHS: Yes; Category: Chip SMD Resistors; Stock 1: 341448; Pricing 1: 1=0,10000, 10=0,04900, 100=0,02000, 1000=0,00898, 2500=0,00780 (USD); Mount: Surface Mount; Case/Package: 0805; Case Code (Imperial): 0805; Case Code (Metric): 2012; Min Operating Temperature: -55°C; Max Operating Temperature: 125°C; Tolerance: 1%; Packaging: Tape and Reel; Composition: Thick Film; Number of Terminations: 2; Termination: Solder; Length: 2mm; Height: 0.55mm; Width: 1.25mm; Depth: 1.25mm; Radiation Hardening: No; ELV: Compliant; ComponentLink2URL: https://datasheet.ciiva.com/11810/0900766b800a696e-11810661.pdf?src-supplier=RSComponents; ComponentLink2Description: https://datasheet.ciiva.com/11810/0900766b800a696e-11810661.pdf?src-supplier=RSComponents; ComponentLink3URL: https://datasheet.ciiva.com/16771/70063020-16771142.pdf?src-supplier=Allied+Electronics; ComponentLink3Description: https://datasheet.ciiva.com/16771/70063020-16771142.pdf?src-supplier=Allied+Electronics; ComponentLink4URL: https://datasheet.ciiva.com/12562/eng-ds-1773204-g-12562348.pdf?src-supplier=Mouser; ComponentLink4Description: https://datasheet.ciiva.com/12562/eng-ds-1773204-g-12562348.pdf?src-supplier=Mouser; Supplier Part Number 1: A126359CT-ND
footprint CR2012-0805 (Chip Capacitor)
pins: 1, 2

## RES 2K7 OHM 1% 1/10W 0603
designator R?, comment 2K7  Tolerance: ±1%
RES SMD 2.7K OHM 1% 1/10W 0603; Manufacturer: Yageo; Manufacturer Part Number: RC0603FR-072K7L; Power (Watts): 0.1W, 1/10W; Temperature Coefficient: ±100ppm/°C; Supplier 1: Digi-Key; RoHS: RoHS Compliant; Category: Resistors; Stock 1: 192813; Pricing 1: 1=0.1, 10=0.013, 25=0.0092, 50=0.007, 100=0.0052, 250=0.00396, 500=0.00316, 1000=0.00233 (USD); Packaging: Cut Tape (CT); Part Status: Active; Resistance (Ohms): 2.7k; Composition: Thick Film; Features: Moisture Resistant; Operating Temperature: -55°C ~ 155°C; Package / Case: 0603 (1608 Metric); Supplier Device Package: 0603; Size / Dimension: 0.063" L x 0.031" W (1.60mm x 0.80mm); Height - Seated (Max): 0.022" (0.55mm); Number of Terminations: 2; Failure Rate: -; ComponentLink1URL: http://www.yageo.com/NewPortal/yageodocoutput?fileName=/pdf/R-Chip/PYu-RC_Group_51_RoHS_L_4.pdf; ComponentLink1Description: http://www.yageo.com/NewPortal/yageodocoutput?fileName=/pdf/R-Chip/PYu-RC_Group_51_RoHS_L_4.pdf; Supplier Part Number 1: 311-2.70KHRCT-ND
footprint CR1608-0603 (Chip Resistor; Body 1.6 x 0.8 mm (LxW typ))
pins: 1, 2

## RES 2K OHM 0.1% 1/10W 0603
designator R?, comment 2K
PANASONIC  2 kohm, 100 mW, -  0.1%, 75 V RoHS Compliant: Yes; Manufacturer Part Number: ERA-3AEB202V; Voltage Rating: 75V; Resistance: 2kR; Power Rating: 100mW; Temperature Coefficient: 25ppm/°C; Supplier 1: LCSC; Manufacturer: Panasonic; RoHS: Yes; Category: Chip SMD Resistors; Stock 1: 16640; Pricing 1: 5=0,10410, 50=0,07860, 150=0,07390, 500=0,06920, 2500=0,06710, 5000=0,06610, 5=0,10020, 50=0,07570, 150=0,07110, 500=0,06660, 2500=0,06460, 5000=0,06360, 5=0,52300, 50=0,39490, 150=0,37120, 500=0,34760, 2500=0,33710, 5000=0,33180, 5=0,50280, 50=0,37960, 150=0,35690, 500=0,33410, 2500=0,32400, 5000=0,31900, 5=0,06760, 50=0,05100, 150=0,04800, 500=0,04490, 2500=0,04360, 5000=0,04290, 5=0,05780, 50=0,04360, 150=0,04100, 500=0,03840, 2500=0,03720, 5000=0,03670, 5=0,61880, 50=0,46720, 150=0,43920, 500=0,41120, 2500=0,39880, 5000=0,39260, 5=8,74530, 50=6,60290, 150=6,20740, 500=5,81190, 2500=5,63610, 5000=5,54820, 5=0,32990, 50=0,24910, 150=0,23410, 500=0,21920, 2500=0,21260, 5000=0,20930, 5=6,02180, 50=4,54660, 150=4,27430, 500=4,00190, 2500=3,88090, 5000=3,82030, 5=0,69130, 50=0,52190, 150=0,49070, 500=0,45940, 2500=0,44550, 5000=0,43860, 5=0,10730, 50=0,08100, 150=0,07620, 500=0,07130, 2500=0,06920, 5000=0,06810, 5=0,07960, 50=0,06010, 150=0,05650, 500=0,05290, 2500=0,05130, 5000=0,05050 (AUD); Mount: Surface Mount; Case/Package: 0603; Number of Pins: 2; Case Code (Metric): 1608; Case Code (Imperial): 0603; Contact Plating: Tin; Min Operating Temperature: -55°C; Max Operating Temperature: 155°C; Packaging: Tape and Reel; Tolerance: 0.1%; Package Quantity: 5000; Resistor Type: Thin Film; Termination: SMD/SMT; Number of Terminations: 2; Max Power Dissipation: 100mW; Voltage Rating (DC): 75V; Working Voltage: 75V; Series: ERA-3A; Resistance Tolerance: 0.1%; Technology: THIN FILM; Construction: Rectangular; Length: 1.6mm; Width: 0.8mm; Height: 0.45mm; Depth: 0.8mm; Radiation Hardening: No; REACH SVHC: No SVHC; Military Standard: Not; Lead Free: Lead Free; RoHS Compliant: Yes; ComponentLink1URL: https://datasheet.ciiva.com/29183/450879-da-01-en-widerstand-0603-era-29183770.pdf?src-supplier=Conrad; ComponentLink1Description: https://datasheet.ciiva.com/29183/450879-da-01-en-widerstand-0603-era-29183770.pdf?src-supplier=Conrad; ComponentLink2URL: https://datasheet.ciiva.com/43455/1776116-43455368.pdf?src-supplier=Farnell; ComponentLink2Description: https://datasheet.ciiva.com/43455/1776116-43455368.pdf?src-supplier=Farnell; ComponentLink3URL: https://datasheet.ciiva.com/46422/1776116-46422600.pdf?src-supplier=Element14; ComponentLink3Description: https://datasheet.ciiva.com/46422/1776116-46422600.pdf?src-supplier=Element14; ComponentLink4URL: https://datasheet.ciiva.com/5999/1776116-5999065.pdf?src-supplier=Farnell; ComponentLink4Description: https://datasheet.ciiva.com/5999/1776116-5999065.pdf?src-supplier=Farnell; ComponentLink5URL: https://datasheet.ciiva.com/16764/70068849-16764889.pdf?src-supplier=Allied+Electronics; ComponentLink5Description: https://datasheet.ciiva.com/16764/70068849-16764889.pdf?src-supplier=Allied+Electronics; ComponentLink6URL: https://datasheet.ciiva.com/16771/70068849-16771321.pdf?src-supplier=Allied+Electronics; ComponentLink6Description: https://datasheet.ciiva.com/16771/70068849-16771321.pdf?src-supplier=Allied+Electronics; ComponentLink7URL: https://datasheet.ciiva.com/46422/1776116-46422601.pdf?src-supplier=Element14; ComponentLink7Description: https://datasheet.ciiva.com/46422/1776116-46422601.pdf?src-supplier=Element14; ComponentLink8URL: https://datasheet.ciiva.com/5999/485442-5999066.pdf?src-supplier=Farnell; ComponentLink8Description: https://datasheet.ciiva.com/5999/485442-5999066.pdf?src-supplier=Farnell; Supplier Part Number 1: C193242
footprint CR1608-0603 (Chip Resistor; Body 1.6 x 0.8 mm (LxW typ))
pins: 1, 2

## RES 3K3 1/8W 1% 0805 SMD
designator R?, comment 3K3
RES 3.3K OHM 1/8W 1% 0805 SMD; Manufacturer: Panasonic Electronic Components; Manufacturer Part Number: ERJ-6ENF3301V; Power (Watts): 0.125W, 1/8W; Temperature Coefficient: ±100ppm/°C; Supplier 1: Digi-Key; RoHS: RoHS Compliant; Category: Resistors; Stock 1: 31953; Pricing 1: 1=0.1, 10=0.036, 25=0.0264, 50=0.02, 100=0.0148, 250=0.01124, 500=0.009, 1000=0.00663 (USD); Packaging: Cut Tape (CT); Part Status: Active; Resistance (Ohms): 3.3k; Tolerance: ±1%; Composition: Thick Film; Features: Automotive AEC-Q200; Operating Temperature: -55°C ~ 155°C; Package / Case: 0805 (2012 Metric); Supplier Device Package: 0805; Size / Dimension: 0.079" L x 0.049" W (2.00mm x 1.25mm); Height - Seated (Max): 0.028" (0.70mm); Failure Rate: -; ComponentLink1URL: https://industrial.panasonic.com/cdbs/www-data/pdf/RDA0000/AOA0000C283.pdf; ComponentLink1Description: https://industrial.panasonic.com/cdbs/www-data/pdf/RDA0000/AOA0000C283.pdf; Supplier Part Number 1: P3.30KCCT-ND
footprint CR2012-0805 (Chip Capacitor)
pins: 1, 2

## RES 3K9 OHM 5% 1/10W 0603 SMD
designator R?, comment 3K9
RES SMD 3.9K OHM 5% 1/10W 0603; Manufacturer: Yageo; Part#: RC0603JR-073K9L; eVendor: Digi-Key; eVendorPrice: 0,10; eVendor#: 311-3.9KGRCT-ND; MSRP: 0,00172; Datasheet: http://www.yageo.com/NewPortal/yageodocoutput?fileName=/pdf/R-Chip/PYu-RC_Group_51_RoHS_L_3.pdf; MOQ: 2500
footprint CR1608-0603 (Chip Resistor; Body 1.6 x 0.8 mm (LxW typ))
pins: 1, 2